# EAGLE library part XMC1000-40 (library INF-XMC)
XMC1000 series 40 pin
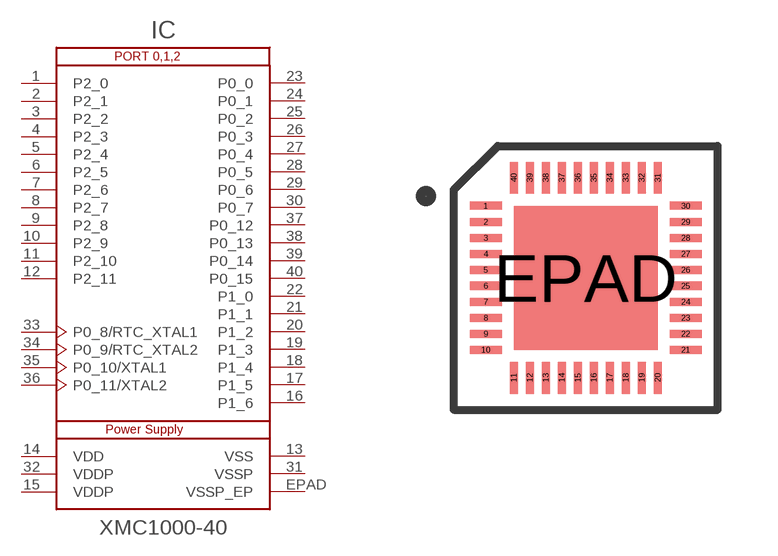
[diagram p11: symbol with the pads of QFN-40-5X5; footprint QFN-40-5X5]

Designator prefix IC

## XMC1000-40QFN  [QFN-40-5X5]
1  P2_0
2  P2_1
3  P2_2  in
4  P2_3  in
5  P2_4  in
6  P2_5  in
7  P2_6  in
8  P2_7  in
9  P2_8  in
10  P2_9  in
11  P2_10
12  P2_11
13  VSS  pwr
14  VDD  pwr
15  VDDP  pwr
16  P1_6
17  P1_5
18  P1_4
19  P1_3
20  P1_2
21  P1_1
22  P1_0
23  P0_0
24  P0_1
25  P0_2
26  P0_3
27  P0_4
28  P0_5
29  P0_6
30  P0_7
31  VSSP  pwr
32  VDDP  pwr
33  P0_8/RTC_XTAL1
34  P0_9/RTC_XTAL2
35  P0_10/XTAL1
36  P0_11/XTAL2
37  P0_12
38  P0_13
39  P0_14
40  P0_15
EPAD  VSSP_EP  pwr

## Footprint QFN-40-5X5 (pad centres in mm)
QFN-40 pin 5x5 mm body 0.4 picth exposed pad 0.8 x 0.2 pad
smd 0.8 x 0.2: 1 -2.5,1.8; 2 -2.5,1.4; 3 -2.5,1; 4 -2.5,0.6; 5 -2.5,0.2; 6 -2.5,-0.2; 7 -2.5,-0.6; 8 -2.5,-1; 9 -2.5,-1.4; 10 -2.5,-1.8; 21 2.5,-1.8; 22 2.5,-1.4; 23 2.5,-1; 24 2.5,-0.6; 25 2.5,-0.2; 26 2.5,0.2; 27 2.5,0.6; 28 2.5,1; 29 2.5,1.4; 30 2.5,1.8
smd 0.2 x 0.8: 11 -1.8,-2.5; 12 -1.4,-2.5; 13 -1,-2.5; 14 -0.6,-2.5; 15 -0.2,-2.5; 16 0.2,-2.5; 17 0.6,-2.5; 18 1,-2.5; 19 1.4,-2.5; 20 1.8,-2.5; 31 1.8,2.5; 32 1.4,2.5; 33 1,2.5; 34 0.6,2.5; 35 0.2,2.5; 36 -0.2,2.5; 37 -0.6,2.5; 38 -1,2.5; 39 -1.4,2.5; 40 -1.8,2.5
smd 3.6 x 3.6: EPAD 0,0